# Altium footprint library TerminalBlock_WAGO.PcbLib: 170 footprints (part 7 of 11)
Each footprint in its own frame and in the unit in brackets; x right, y up, seen from the top. Pads: shape width x height; smd on the part's side, far side on the other; paste and mask are expansions set on the pad; w line width, h text height; cw(c..) or ccw(c..) is an arc to the next point about the centre after c.
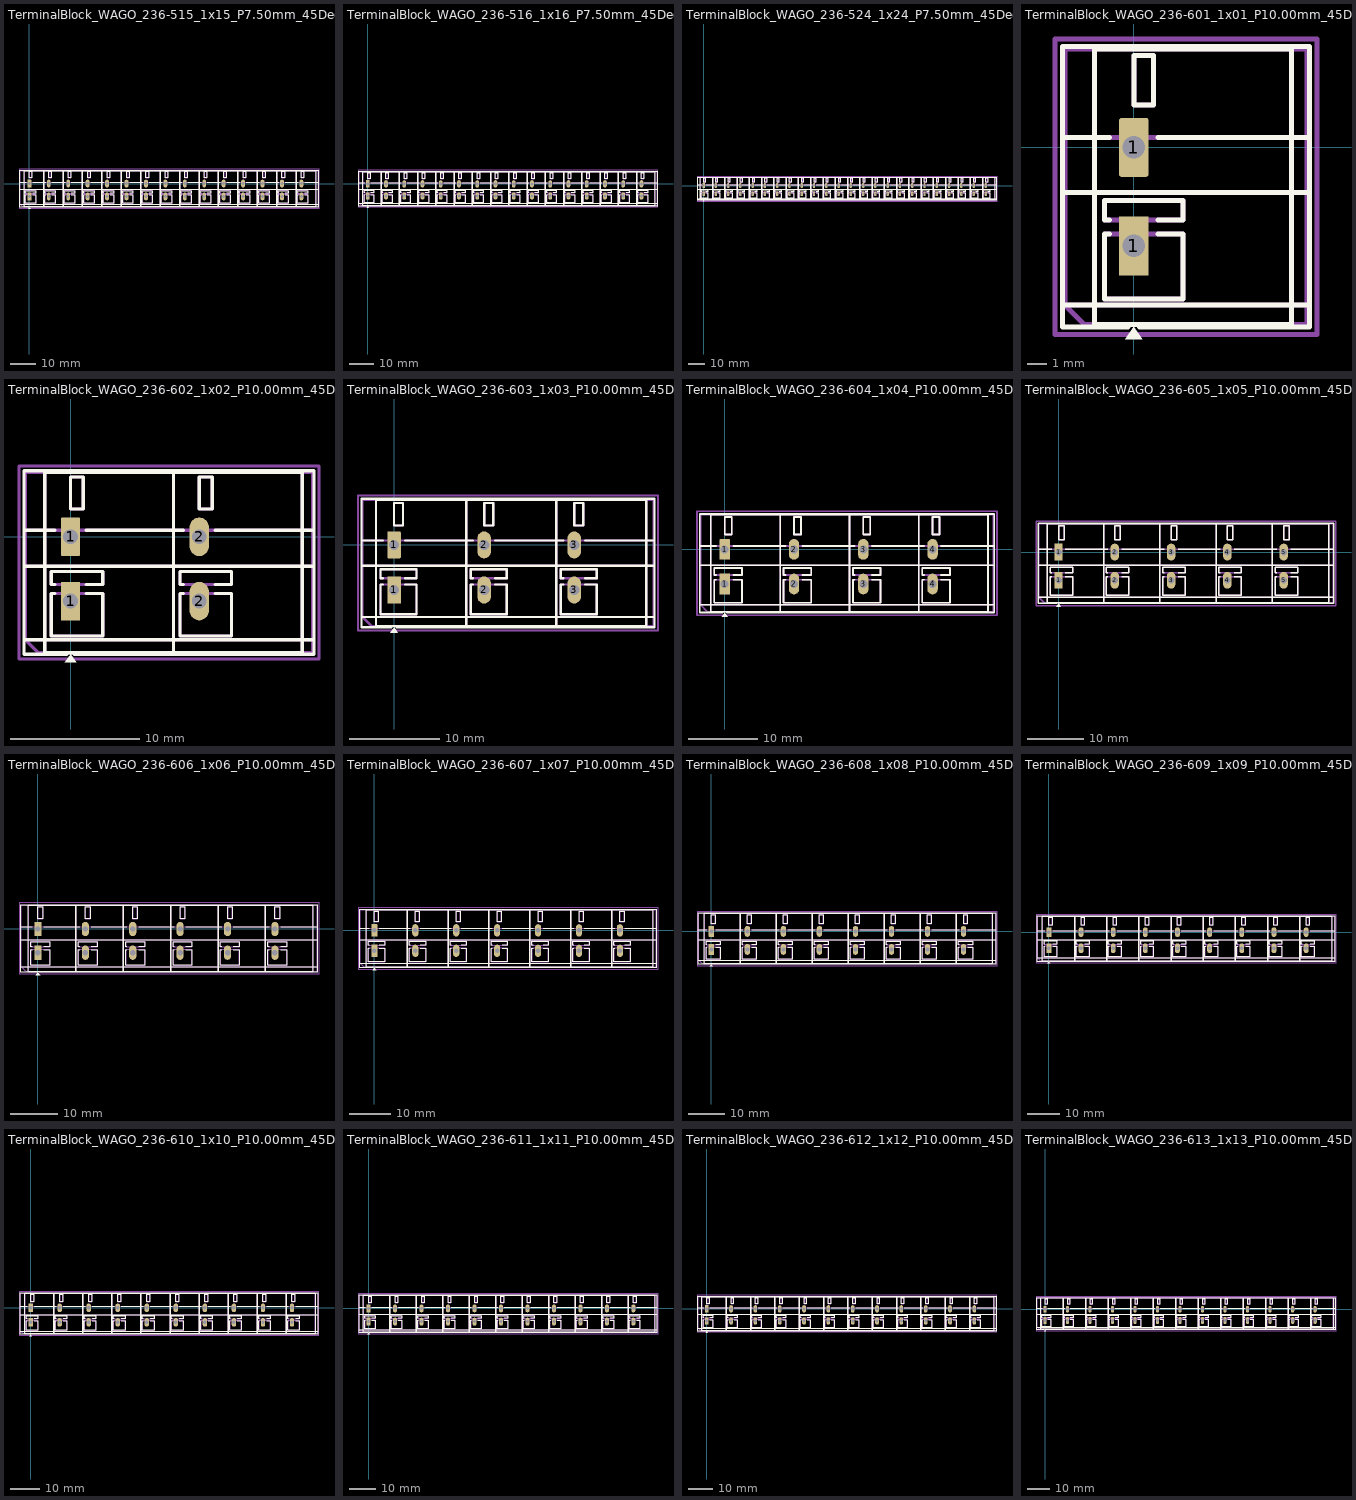
[diagram p6: the footprints below, top view; thin cyan lines are the x and y axes]

## TerminalBlock_WAGO_236-515_1x15_P7.50mm_45Degree [mm]
pads (30):
  rect 1.5x3 hole 1.15: 1(0,-5)
  rrect17% 1.5x3 hole 1.15: 1(0,0)
  rrect100% 1.5x3 hole 1.15: 2(7.5,-5) 2(7.5,0) 3(15,-5) 3(15,0) 4(22.5,-5) 4(22.5,0) 5(30,-5) 5(30,0) 6(37.5,-5) 6(37.5,0) 7(45,-5) 7(45,0) 8(52.5,-5) 8(52.5,0) 9(60,-5) 9(60,0) 10(67.5,-5) 10(67.5,0) 11(75,-5) 11(75,0) 12(82.5,-5) 12(82.5,0) 13(90,-5) 13(90,0) 14(97.5,-5) 14(97.5,0) 15(105,-5) 15(105,0)
F.SilkS:
  drawing of 294 lines, arcs and shapes, not listed
F.Fab:
  drawing of 248 lines, arcs and shapes, not listed
  text "'.Designator'" at 49.853,-1.84 h1
F.CrtYd:
  lines w0.254: -4,-9.5 -4,5.5 111.8,5.5 111.8,-9.5 -4,-9.5

## TerminalBlock_WAGO_236-516_1x16_P7.50mm_45Degree [mm]
pads (32):
  rect 1.5x3 hole 1.15: 1(0,-5)
  rrect17% 1.5x3 hole 1.15: 1(0,0)
  rrect100% 1.5x3 hole 1.15: 2(7.5,-5) 2(7.5,0) 3(15,-5) 3(15,0) 4(22.5,-5) 4(22.5,0) 5(30,-5) 5(30,0) 6(37.5,-5) 6(37.5,0) 7(45,-5) 7(45,0) 8(52.5,-5) 8(52.5,0) 9(60,-5) 9(60,0) 10(67.5,-5) 10(67.5,0) 11(75,-5) 11(75,0) 12(82.5,-5) 12(82.5,0) 13(90,-5) 13(90,0) 14(97.5,-5) 14(97.5,0) 15(105,-5) 15(105,0) 16(112.5,-5) 16(112.5,0)
F.SilkS:
  drawing of 313 lines, arcs and shapes, not listed
F.Fab:
  drawing of 264 lines, arcs and shapes, not listed
  text "'.Designator'" at 53.603,-1.84 h1
F.CrtYd:
  lines w0.254: -4,-9.5 -4,5.5 119.3,5.5 119.3,-9.5 -4,-9.5

## TerminalBlock_WAGO_236-524_1x24_P7.50mm_45Degree [mm]
pads (48):
  rect 1.5x3 hole 1.15: 1(0,-5)
  rrect17% 1.5x3 hole 1.15: 1(0,0)
  rrect100% 1.5x3 hole 1.15: 2(7.5,-5) 2(7.5,0) 3(15,-5) 3(15,0) 4(22.5,-5) 4(22.5,0) 5(30,-5) 5(30,0) 6(37.5,-5) 6(37.5,0) 7(45,-5) 7(45,0) 8(52.5,-5) 8(52.5,0) 9(60,-5) 9(60,0) 10(67.5,-5) 10(67.5,0) 11(75,-5) 11(75,0) 12(82.5,-5) 12(82.5,0) 13(90,-5) 13(90,0) 14(97.5,-5) 14(97.5,0) 15(105,-5) 15(105,0) 16(112.5,-5) 16(112.5,0) 17(120,-5) 17(120,0) 18(127.5,-5) 18(127.5,0) 19(135,-5) 19(135,0) 20(142.5,-5) 20(142.5,0) 21(150,-5) 21(150,0) 22(157.5,-5) 22(157.5,0) 23(165,-5) 23(165,0) 24(172.5,-5) 24(172.5,0)
F.SilkS:
  drawing of 465 lines, arcs and shapes, not listed
F.Fab:
  drawing of 392 lines, arcs and shapes, not listed
  text "'.Designator'" at 83.603,-1.84 h1
F.CrtYd:
  lines w0.254: -4,-9.5 -4,5.5 179.3,5.5 179.3,-9.5 -4,-9.5

## TerminalBlock_WAGO_236-601_1x01_P10.00mm_45Degree [mm]
pads (2):
  rect 1.5x3 hole 1.15: 1(0,-5)
  rrect17% 1.5x3 hole 1.15: 1(0,0)
F.SilkS:
  region: 0.44,-9.73 -0.44,-9.73 0,-9.12
  lines w0.254: -3.62,-8 8.92,-8 ; -3.62,-2.3 8.92,-2.3 ; -3.62,0.5 -1.23,0.5 ; -1.23,-4.4 -1.5,-4.4 -1.5,-7.7 2.5,-7.7 2.5,-4.4 1.23,-4.4 ; -1.23,-3.7 -1.5,-3.7 -1.5,-2.7 2.5,-2.7 2.5,-3.7 1.23,-3.7 ; -0.3,-9.12 -3.62,-9.12 -3.62,5.12 8.92,5.12 8.92,-9.12 0.3,-9.12 ; 1.23,0.5 8.92,0.5 ; -2,-9 -2,5 8,5 8,-9 -2,-9 ; 0,2.15 0,4.65 1,4.65 1,2.15 0,2.15
F.Fab:
  lines w0.254: -3.5,-2.3 8.8,-2.3 ; -3.5,0.5 8.8,0.5 ; 8.8,-8 -3.5,-8 ; -3.5,-8 -3.5,5 8.8,5 8.8,-9 -2.5,-9 -3.5,-8 ; -2,-9 -2,5 8,5 8,-9 -2,-9 ; -1.5,-7.7 -1.5,-4.4 2.5,-4.4 2.5,-7.7 -1.5,-7.7 ; -1.5,-3.7 -1.5,-2.7 2.5,-2.7 2.5,-3.7 -1.5,-3.7 ; 0,2.15 0,4.65 1,4.65 1,2.15 0,2.15
  text "'.Designator'" at -1.397,-1.84 h1
F.CrtYd:
  lines w0.254: -4,-9.5 -4,5.5 9.3,5.5 9.3,-9.5 -4,-9.5

## TerminalBlock_WAGO_236-602_1x02_P10.00mm_45Degree [mm]
pads (4):
  rect 1.5x3 hole 1.15: 1(0,-5)
  rrect17% 1.5x3 hole 1.15: 1(0,0)
  rrect100% 1.5x3 hole 1.15: 2(10,-5) 2(10,0)
F.SilkS:
  region: 0.44,-9.73 -0.44,-9.73 0,-9.12
  lines w0.254: -3.62,-8 18.92,-8 ; -3.62,-2.3 18.92,-2.3 ; -3.62,0.5 -1.23,0.5 ; -1.23,-4.4 -1.5,-4.4 -1.5,-7.7 2.5,-7.7 2.5,-4.4 1.23,-4.4 ; -1.23,-3.7 -1.5,-3.7 -1.5,-2.7 2.5,-2.7 2.5,-3.7 1.23,-3.7 ; -0.3,-9.12 -3.62,-9.12 -3.62,5.12 18.92,5.12 18.92,-9.12 0.3,-9.12 ; 1.23,0.5 8.77,0.5 ; 8.77,-4.4 8.5,-4.4 8.5,-7.7 12.5,-7.7 12.5,-4.4 11.23,-4.4 ; 8.77,-3.7 8.5,-3.7 8.5,-2.7 12.5,-2.7 12.5,-3.7 11.23,-3.7 ; 11.23,0.5 18.92,0.5 ; 8,-9 8,5 ; 8,-9 -2,-9 -2,5 8,5 ; 8,-9 8,5 ; 8,-9 18,-9 18,5 8,5 ; 0,2.15 0,4.65 1,4.65 1,2.15 0,2.15 ; 10,2.15 10,4.65 11,4.65 11,2.15 10,2.15
F.Fab:
  lines w0.254: -3.5,-2.3 18.8,-2.3 ; -3.5,0.5 18.8,0.5 ; 18.8,-8 -3.5,-8 ; -3.5,-8 -3.5,5 18.8,5 18.8,-9 -2.5,-9 -3.5,-8 ; 8,-9 -2,-9 -2,5 8,5 ; 8,-9 8,5 ; 8,-9 8,5 ; 8,-9 18,-9 18,5 8,5 ; -1.5,-7.7 -1.5,-4.4 2.5,-4.4 2.5,-7.7 -1.5,-7.7 ; -1.5,-3.7 -1.5,-2.7 2.5,-2.7 2.5,-3.7 -1.5,-3.7 ; 0,2.15 0,4.65 1,4.65 1,2.15 0,2.15 ; 8.5,-7.7 8.5,-4.4 12.5,-4.4 12.5,-7.7 8.5,-7.7 ; 8.5,-3.7 8.5,-2.7 12.5,-2.7 12.5,-3.7 8.5,-3.7 ; 10,2.15 10,4.65 11,4.65 11,2.15 10,2.15
  text "'.Designator'" at 3.603,-1.84 h1
F.CrtYd:
  lines w0.254: -4,-9.5 -4,5.5 19.3,5.5 19.3,-9.5 -4,-9.5

## TerminalBlock_WAGO_236-603_1x03_P10.00mm_45Degree [mm]
pads (6):
  rect 1.5x3 hole 1.15: 1(0,-5)
  rrect17% 1.5x3 hole 1.15: 1(0,0)
  rrect100% 1.5x3 hole 1.15: 2(10,-5) 2(10,0) 3(20,-5) 3(20,0)
F.SilkS:
  region: 0.44,-9.73 -0.44,-9.73 0,-9.12
  lines w0.254: -3.62,-8 28.92,-8 ; -3.62,-2.3 28.92,-2.3 ; -3.62,0.5 -1.23,0.5 ; -1.23,-4.4 -1.5,-4.4 -1.5,-7.7 2.5,-7.7 2.5,-4.4 1.23,-4.4 ; -1.23,-3.7 -1.5,-3.7 -1.5,-2.7 2.5,-2.7 2.5,-3.7 1.23,-3.7 ; -0.3,-9.12 -3.62,-9.12 -3.62,5.12 28.92,5.12 28.92,-9.12 0.3,-9.12 ; 1.23,0.5 8.77,0.5 ; 8.77,-4.4 8.5,-4.4 8.5,-7.7 12.5,-7.7 12.5,-4.4 11.23,-4.4 ; 8.77,-3.7 8.5,-3.7 8.5,-2.7 12.5,-2.7 12.5,-3.7 11.23,-3.7 ; 11.23,0.5 18.77,0.5 ; 18.77,-4.4 18.5,-4.4 18.5,-7.7 22.5,-7.7 22.5,-4.4 21.23,-4.4 ; 18.77,-3.7 18.5,-3.7 18.5,-2.7 22.5,-2.7 22.5,-3.7 21.23,-3.7 ; 21.23,0.5 28.92,0.5 ; 8,-9 8,5 ; 8,-9 -2,-9 -2,5 8,5 ; 8,-9 8,5 ; 8,-9 18,-9 ; 8,5 18,5 ; 18,-9 18,5 ; 18,-9 18,5 ; 18,-9 28,-9 28,5 18,5 ; 0,2.15 0,4.65 1,4.65 1,2.15 0,2.15 ; 10,2.15 10,4.65 11,4.65 11,2.15 10,2.15 ; 20,2.15 20,4.65 21,4.65 21,2.15 20,2.15
F.Fab:
  lines w0.254: -3.5,-2.3 28.8,-2.3 ; -3.5,0.5 28.8,0.5 ; 28.8,-8 -3.5,-8 ; -3.5,-8 -3.5,5 28.8,5 28.8,-9 -2.5,-9 -3.5,-8 ; 8,-9 -2,-9 -2,5 8,5 ; 8,-9 8,5 ; 8,-9 8,5 ; 8,-9 18,-9 ; 8,5 18,5 ; 18,-9 18,5 ; 18,-9 18,5 ; 18,-9 28,-9 28,5 18,5 ; -1.5,-7.7 -1.5,-4.4 2.5,-4.4 2.5,-7.7 -1.5,-7.7 ; -1.5,-3.7 -1.5,-2.7 2.5,-2.7 2.5,-3.7 -1.5,-3.7 ; 0,2.15 0,4.65 1,4.65 1,2.15 0,2.15 ; 8.5,-7.7 8.5,-4.4 12.5,-4.4 12.5,-7.7 8.5,-7.7 ; 8.5,-3.7 8.5,-2.7 12.5,-2.7 12.5,-3.7 8.5,-3.7 ; 10,2.15 10,4.65 11,4.65 11,2.15 10,2.15 ; 18.5,-7.7 18.5,-4.4 22.5,-4.4 22.5,-7.7 18.5,-7.7 ; 18.5,-3.7 18.5,-2.7 22.5,-2.7 22.5,-3.7 18.5,-3.7 ; 20,2.15 20,4.65 21,4.65 21,2.15 20,2.15
  text "'.Designator'" at 8.603,-1.84 h1
F.CrtYd:
  lines w0.254: -4,-9.5 -4,5.5 29.3,5.5 29.3,-9.5 -4,-9.5

## TerminalBlock_WAGO_236-604_1x04_P10.00mm_45Degree [mm]
pads (8):
  rect 1.5x3 hole 1.15: 1(0,-5)
  rrect17% 1.5x3 hole 1.15: 1(0,0)
  rrect100% 1.5x3 hole 1.15: 2(10,-5) 2(10,0) 3(20,-5) 3(20,0) 4(30,-5) 4(30,0)
F.SilkS:
  region: 0.44,-9.73 -0.44,-9.73 0,-9.12
  lines w0.254: -3.62,-8 38.92,-8 ; -3.62,-2.3 38.92,-2.3 ; -3.62,0.5 -1.23,0.5 ; -1.23,-4.4 -1.5,-4.4 -1.5,-7.7 2.5,-7.7 2.5,-4.4 1.23,-4.4 ; -1.23,-3.7 -1.5,-3.7 -1.5,-2.7 2.5,-2.7 2.5,-3.7 1.23,-3.7 ; -0.3,-9.12 -3.62,-9.12 -3.62,5.12 38.92,5.12 38.92,-9.12 0.3,-9.12 ; 1.23,0.5 8.77,0.5 ; 8.77,-4.4 8.5,-4.4 8.5,-7.7 12.5,-7.7 12.5,-4.4 11.23,-4.4 ; 8.77,-3.7 8.5,-3.7 8.5,-2.7 12.5,-2.7 12.5,-3.7 11.23,-3.7 ; 11.23,0.5 18.77,0.5 ; 18.77,-4.4 18.5,-4.4 18.5,-7.7 22.5,-7.7 22.5,-4.4 21.23,-4.4 ; 18.77,-3.7 18.5,-3.7 18.5,-2.7 22.5,-2.7 22.5,-3.7 21.23,-3.7 ; 21.23,0.5 28.77,0.5 ; 28.77,-4.4 28.5,-4.4 28.5,-7.7 32.5,-7.7 32.5,-4.4 31.23,-4.4 ; 28.77,-3.7 28.5,-3.7 28.5,-2.7 32.5,-2.7 32.5,-3.7 31.23,-3.7 ; 31.23,0.5 38.92,0.5 ; 8,-9 8,5 ; 8,-9 -2,-9 -2,5 8,5 ; 8,-9 8,5 ; 8,-9 18,-9 ; 8,5 18,5 ; 18,-9 18,5 ; 18,-9 18,5 ; 18,-9 28,-9 ; 18,5 28,5 ; 28,-9 28,5 ; 28,-9 28,5 ; 28,-9 38,-9 38,5 28,5 ; 0,2.15 0,4.65 1,4.65 1,2.15 0,2.15 ; 10,2.15 10,4.65 11,4.65 11,2.15 10,2.15 ; 20,2.15 20,4.65 21,4.65 21,2.15 20,2.15 ; 30,2.15 30,4.65 31,4.65 31,2.15 30,2.15
F.Fab:
  lines w0.254: -3.5,-2.3 38.8,-2.3 ; -3.5,0.5 38.8,0.5 ; 38.8,-8 -3.5,-8 ; -3.5,-8 -3.5,5 38.8,5 38.8,-9 -2.5,-9 -3.5,-8 ; 8,-9 -2,-9 -2,5 8,5 ; 8,-9 8,5 ; 8,-9 8,5 ; 8,-9 18,-9 ; 8,5 18,5 ; 18,-9 18,5 ; 18,-9 18,5 ; 18,-9 28,-9 ; 18,5 28,5 ; 28,-9 28,5 ; 28,-9 28,5 ; 28,-9 38,-9 38,5 28,5 ; -1.5,-7.7 -1.5,-4.4 2.5,-4.4 2.5,-7.7 -1.5,-7.7 ; -1.5,-3.7 -1.5,-2.7 2.5,-2.7 2.5,-3.7 -1.5,-3.7 ; 0,2.15 0,4.65 1,4.65 1,2.15 0,2.15 ; 8.5,-7.7 8.5,-4.4 12.5,-4.4 12.5,-7.7 8.5,-7.7 ; 8.5,-3.7 8.5,-2.7 12.5,-2.7 12.5,-3.7 8.5,-3.7 ; 10,2.15 10,4.65 11,4.65 11,2.15 10,2.15 ; 18.5,-7.7 18.5,-4.4 22.5,-4.4 22.5,-7.7 18.5,-7.7 ; 18.5,-3.7 18.5,-2.7 22.5,-2.7 22.5,-3.7 18.5,-3.7 ; 20,2.15 20,4.65 21,4.65 21,2.15 20,2.15 ; 28.5,-7.7 28.5,-4.4 32.5,-4.4 32.5,-7.7 28.5,-7.7 ; 28.5,-3.7 28.5,-2.7 32.5,-2.7 32.5,-3.7 28.5,-3.7 ; 30,2.15 30,4.65 31,4.65 31,2.15 30,2.15
  text "'.Designator'" at 13.603,-1.84 h1
F.CrtYd:
  lines w0.254: -4,-9.5 -4,5.5 39.3,5.5 39.3,-9.5 -4,-9.5

## TerminalBlock_WAGO_236-605_1x05_P10.00mm_45Degree [mm]
pads (10):
  rect 1.5x3 hole 1.15: 1(0,-5)
  rrect17% 1.5x3 hole 1.15: 1(0,0)
  rrect100% 1.5x3 hole 1.15: 2(10,-5) 2(10,0) 3(20,-5) 3(20,0) 4(30,-5) 4(30,0) 5(40,-5) 5(40,0)
F.SilkS:
  region: 0.44,-9.73 -0.44,-9.73 0,-9.12
  lines w0.254: -3.62,-8 48.92,-8 ; -3.62,-2.3 48.92,-2.3 ; -3.62,0.5 -1.23,0.5 ; -1.23,-4.4 -1.5,-4.4 -1.5,-7.7 2.5,-7.7 2.5,-4.4 1.23,-4.4 ; -1.23,-3.7 -1.5,-3.7 -1.5,-2.7 2.5,-2.7 2.5,-3.7 1.23,-3.7 ; -0.3,-9.12 -3.62,-9.12 -3.62,5.12 48.92,5.12 48.92,-9.12 0.3,-9.12 ; 1.23,0.5 8.77,0.5 ; 8.77,-4.4 8.5,-4.4 8.5,-7.7 12.5,-7.7 12.5,-4.4 11.23,-4.4 ; 8.77,-3.7 8.5,-3.7 8.5,-2.7 12.5,-2.7 12.5,-3.7 11.23,-3.7 ; 11.23,0.5 18.77,0.5 ; 18.77,-4.4 18.5,-4.4 18.5,-7.7 22.5,-7.7 22.5,-4.4 21.23,-4.4 ; 18.77,-3.7 18.5,-3.7 18.5,-2.7 22.5,-2.7 22.5,-3.7 21.23,-3.7 ; 21.23,0.5 28.77,0.5 ; 28.77,-4.4 28.5,-4.4 28.5,-7.7 32.5,-7.7 32.5,-4.4 31.23,-4.4 ; 28.77,-3.7 28.5,-3.7 28.5,-2.7 32.5,-2.7 32.5,-3.7 31.23,-3.7 ; 31.23,0.5 38.77,0.5 ; 38.77,-4.4 38.5,-4.4 38.5,-7.7 42.5,-7.7 42.5,-4.4 41.23,-4.4 ; 38.77,-3.7 38.5,-3.7 38.5,-2.7 42.5,-2.7 42.5,-3.7 41.23,-3.7 ; 41.23,0.5 48.92,0.5 ; 8,-9 8,5 ; 8,-9 -2,-9 -2,5 8,5 ; 8,-9 8,5 ; 8,-9 18,-9 ; 8,5 18,5 ; 18,-9 18,5 ; 18,-9 18,5 ; 18,-9 28,-9 ; 18,5 28,5 ; 28,-9 28,5 ; 28,-9 28,5 ; 28,-9 38,-9 ; 28,5 38,5 ; 38,-9 38,5 ; 38,-9 38,5 ; 38,-9 48,-9 48,5 38,5 ; 0,2.15 0,4.65 1,4.65 1,2.15 0,2.15 ; 10,2.15 10,4.65 11,4.65 11,2.15 10,2.15 ; 20,2.15 20,4.65 21,4.65 21,2.15 20,2.15 ; 30,2.15 30,4.65 31,4.65 31,2.15 30,2.15 ; 40,2.15 40,4.65 41,4.65 41,2.15 40,2.15
F.Fab:
  lines w0.254: -3.5,-2.3 48.8,-2.3 ; -3.5,0.5 48.8,0.5 ; 48.8,-8 -3.5,-8 ; -3.5,-8 -3.5,5 48.8,5 48.8,-9 -2.5,-9 -3.5,-8 ; 8,-9 -2,-9 -2,5 8,5 ; 8,-9 8,5 ; 8,-9 8,5 ; 8,-9 18,-9 ; 8,5 18,5 ; 18,-9 18,5 ; 18,-9 18,5 ; 18,-9 28,-9 ; 18,5 28,5 ; 28,-9 28,5 ; 28,-9 28,5 ; 28,-9 38,-9 ; 28,5 38,5 ; 38,-9 38,5 ; 38,-9 38,5 ; 38,-9 48,-9 48,5 38,5 ; -1.5,-7.7 -1.5,-4.4 2.5,-4.4 2.5,-7.7 -1.5,-7.7 ; -1.5,-3.7 -1.5,-2.7 2.5,-2.7 2.5,-3.7 -1.5,-3.7 ; 0,2.15 0,4.65 1,4.65 1,2.15 0,2.15 ; 8.5,-7.7 8.5,-4.4 12.5,-4.4 12.5,-7.7 8.5,-7.7 ; 8.5,-3.7 8.5,-2.7 12.5,-2.7 12.5,-3.7 8.5,-3.7 ; 10,2.15 10,4.65 11,4.65 11,2.15 10,2.15 ; 18.5,-7.7 18.5,-4.4 22.5,-4.4 22.5,-7.7 18.5,-7.7 ; 18.5,-3.7 18.5,-2.7 22.5,-2.7 22.5,-3.7 18.5,-3.7 ; 20,2.15 20,4.65 21,4.65 21,2.15 20,2.15 ; 28.5,-7.7 28.5,-4.4 32.5,-4.4 32.5,-7.7 28.5,-7.7 ; 28.5,-3.7 28.5,-2.7 32.5,-2.7 32.5,-3.7 28.5,-3.7 ; 30,2.15 30,4.65 31,4.65 31,2.15 30,2.15 ; 38.5,-7.7 38.5,-4.4 42.5,-4.4 42.5,-7.7 38.5,-7.7 ; 38.5,-3.7 38.5,-2.7 42.5,-2.7 42.5,-3.7 38.5,-3.7 ; 40,2.15 40,4.65 41,4.65 41,2.15 40,2.15
  text "'.Designator'" at 18.603,-1.84 h1
F.CrtYd:
  lines w0.254: -4,-9.5 -4,5.5 49.3,5.5 49.3,-9.5 -4,-9.5

## TerminalBlock_WAGO_236-606_1x06_P10.00mm_45Degree [mm]
pads (12):
  rect 1.5x3 hole 1.15: 1(0,-5)
  rrect17% 1.5x3 hole 1.15: 1(0,0)
  rrect100% 1.5x3 hole 1.15: 2(10,-5) 2(10,0) 3(20,-5) 3(20,0) 4(30,-5) 4(30,0) 5(40,-5) 5(40,0) 6(50,-5) 6(50,0)
F.SilkS:
  region: 0.44,-9.73 -0.44,-9.73 0,-9.12
  lines w0.254: -3.62,-8 58.92,-8 ; -3.62,-2.3 58.92,-2.3 ; -3.62,0.5 -1.23,0.5 ; -1.23,-4.4 -1.5,-4.4 -1.5,-7.7 2.5,-7.7 2.5,-4.4 1.23,-4.4 ; -1.23,-3.7 -1.5,-3.7 -1.5,-2.7 2.5,-2.7 2.5,-3.7 1.23,-3.7 ; -0.3,-9.12 -3.62,-9.12 -3.62,5.12 58.92,5.12 58.92,-9.12 0.3,-9.12 ; 1.23,0.5 8.77,0.5 ; 8.77,-4.4 8.5,-4.4 8.5,-7.7 12.5,-7.7 12.5,-4.4 11.23,-4.4 ; 8.77,-3.7 8.5,-3.7 8.5,-2.7 12.5,-2.7 12.5,-3.7 11.23,-3.7 ; 11.23,0.5 18.77,0.5 ; 18.77,-4.4 18.5,-4.4 18.5,-7.7 22.5,-7.7 22.5,-4.4 21.23,-4.4 ; 18.77,-3.7 18.5,-3.7 18.5,-2.7 22.5,-2.7 22.5,-3.7 21.23,-3.7 ; 21.23,0.5 28.77,0.5 ; 28.77,-4.4 28.5,-4.4 28.5,-7.7 32.5,-7.7 32.5,-4.4 31.23,-4.4 ; 28.77,-3.7 28.5,-3.7 28.5,-2.7 32.5,-2.7 32.5,-3.7 31.23,-3.7 ; 31.23,0.5 38.77,0.5 ; 38.77,-4.4 38.5,-4.4 38.5,-7.7 42.5,-7.7 42.5,-4.4 41.23,-4.4 ; 38.77,-3.7 38.5,-3.7 38.5,-2.7 42.5,-2.7 42.5,-3.7 41.23,-3.7 ; 41.23,0.5 48.77,0.5 ; 48.77,-4.4 48.5,-4.4 48.5,-7.7 52.5,-7.7 52.5,-4.4 51.23,-4.4 ; 48.77,-3.7 48.5,-3.7 48.5,-2.7 52.5,-2.7 52.5,-3.7 51.23,-3.7 ; 51.23,0.5 58.92,0.5 ; 8,-9 8,5 ; 8,-9 -2,-9 -2,5 8,5 ; 8,-9 8,5 ; 8,-9 18,-9 ; 8,5 18,5 ; 18,-9 18,5 ; 18,-9 18,5 ; 18,-9 28,-9 ; 18,5 28,5 ; 28,-9 28,5 ; 28,-9 28,5 ; 28,-9 38,-9 ; 28,5 38,5 ; 38,-9 38,5 ; 38,-9 38,5 ; 38,-9 48,-9 ; 38,5 48,5 ; 48,-9 48,5 ; 48,-9 48,5 ; 48,-9 58,-9 58,5 48,5 ; 0,2.15 0,4.65 1,4.65 1,2.15 0,2.15 ; 10,2.15 10,4.65 11,4.65 11,2.15 10,2.15 ; 20,2.15 20,4.65 21,4.65 21,2.15 20,2.15 ; 30,2.15 30,4.65 31,4.65 31,2.15 30,2.15 ; 40,2.15 40,4.65 41,4.65 41,2.15 40,2.15 ; 50,2.15 50,4.65 51,4.65 51,2.15 50,2.15
F.Fab:
  lines w0.254: -3.5,-2.3 58.8,-2.3 ; -3.5,0.5 58.8,0.5 ; 58.8,-8 -3.5,-8 ; -3.5,-8 -3.5,5 58.8,5 58.8,-9 -2.5,-9 -3.5,-8 ; 8,-9 -2,-9 -2,5 8,5 ; 8,-9 8,5 ; 8,-9 8,5 ; 8,-9 18,-9 ; 8,5 18,5 ; 18,-9 18,5 ; 18,-9 18,5 ; 18,-9 28,-9 ; 18,5 28,5 ; 28,-9 28,5 ; 28,-9 28,5 ; 28,-9 38,-9 ; 28,5 38,5 ; 38,-9 38,5 ; 38,-9 38,5 ; 38,-9 48,-9 ; 38,5 48,5 ; 48,-9 48,5 ; 48,-9 48,5 ; 48,-9 58,-9 58,5 48,5 ; -1.5,-7.7 -1.5,-4.4 2.5,-4.4 2.5,-7.7 -1.5,-7.7 ; -1.5,-3.7 -1.5,-2.7 2.5,-2.7 2.5,-3.7 -1.5,-3.7 ; 0,2.15 0,4.65 1,4.65 1,2.15 0,2.15 ; 8.5,-7.7 8.5,-4.4 12.5,-4.4 12.5,-7.7 8.5,-7.7 ; 8.5,-3.7 8.5,-2.7 12.5,-2.7 12.5,-3.7 8.5,-3.7 ; 10,2.15 10,4.65 11,4.65 11,2.15 10,2.15 ; 18.5,-7.7 18.5,-4.4 22.5,-4.4 22.5,-7.7 18.5,-7.7 ; 18.5,-3.7 18.5,-2.7 22.5,-2.7 22.5,-3.7 18.5,-3.7 ; 20,2.15 20,4.65 21,4.65 21,2.15 20,2.15 ; 28.5,-7.7 28.5,-4.4 32.5,-4.4 32.5,-7.7 28.5,-7.7 ; 28.5,-3.7 28.5,-2.7 32.5,-2.7 32.5,-3.7 28.5,-3.7 ; 30,2.15 30,4.65 31,4.65 31,2.15 30,2.15 ; 38.5,-7.7 38.5,-4.4 42.5,-4.4 42.5,-7.7 38.5,-7.7 ; 38.5,-3.7 38.5,-2.7 42.5,-2.7 42.5,-3.7 38.5,-3.7 ; 40,2.15 40,4.65 41,4.65 41,2.15 40,2.15 ; 48.5,-7.7 48.5,-4.4 52.5,-4.4 52.5,-7.7 48.5,-7.7 ; 48.5,-3.7 48.5,-2.7 52.5,-2.7 52.5,-3.7 48.5,-3.7 ; 50,2.15 50,4.65 51,4.65 51,2.15 50,2.15
  text "'.Designator'" at 23.603,-1.84 h1
F.CrtYd:
  lines w0.254: -4,-9.5 -4,5.5 59.3,5.5 59.3,-9.5 -4,-9.5

## TerminalBlock_WAGO_236-607_1x07_P10.00mm_45Degree [mm]
pads (14):
  rect 1.5x3 hole 1.15: 1(0,-5)
  rrect17% 1.5x3 hole 1.15: 1(0,0)
  rrect100% 1.5x3 hole 1.15: 2(10,-5) 2(10,0) 3(20,-5) 3(20,0) 4(30,-5) 4(30,0) 5(40,-5) 5(40,0) 6(50,-5) 6(50,0) 7(60,-5) 7(60,0)
F.SilkS:
  region: 0.44,-9.73 -0.44,-9.73 0,-9.12
  lines w0.254: -3.62,-8 68.92,-8 ; -3.62,-2.3 68.92,-2.3 ; -3.62,0.5 -1.23,0.5 ; -1.23,-4.4 -1.5,-4.4 -1.5,-7.7 2.5,-7.7 2.5,-4.4 1.23,-4.4 ; -1.23,-3.7 -1.5,-3.7 -1.5,-2.7 2.5,-2.7 2.5,-3.7 1.23,-3.7 ; -0.3,-9.12 -3.62,-9.12 -3.62,5.12 68.92,5.12 68.92,-9.12 0.3,-9.12 ; 1.23,0.5 8.77,0.5 ; 8.77,-4.4 8.5,-4.4 8.5,-7.7 12.5,-7.7 12.5,-4.4 11.23,-4.4 ; 8.77,-3.7 8.5,-3.7 8.5,-2.7 12.5,-2.7 12.5,-3.7 11.23,-3.7 ; 11.23,0.5 18.77,0.5 ; 18.77,-4.4 18.5,-4.4 18.5,-7.7 22.5,-7.7 22.5,-4.4 21.23,-4.4 ; 18.77,-3.7 18.5,-3.7 18.5,-2.7 22.5,-2.7 22.5,-3.7 21.23,-3.7 ; 21.23,0.5 28.77,0.5 ; 28.77,-4.4 28.5,-4.4 28.5,-7.7 32.5,-7.7 32.5,-4.4 31.23,-4.4 ; 28.77,-3.7 28.5,-3.7 28.5,-2.7 32.5,-2.7 32.5,-3.7 31.23,-3.7 ; 31.23,0.5 38.77,0.5 ; 38.77,-4.4 38.5,-4.4 38.5,-7.7 42.5,-7.7 42.5,-4.4 41.23,-4.4 ; 38.77,-3.7 38.5,-3.7 38.5,-2.7 42.5,-2.7 42.5,-3.7 41.23,-3.7 ; 41.23,0.5 48.77,0.5 ; 48.77,-4.4 48.5,-4.4 48.5,-7.7 52.5,-7.7 52.5,-4.4 51.23,-4.4 ; 48.77,-3.7 48.5,-3.7 48.5,-2.7 52.5,-2.7 52.5,-3.7 51.23,-3.7 ; 51.23,0.5 58.77,0.5 ; 58.77,-4.4 58.5,-4.4 58.5,-7.7 62.5,-7.7 62.5,-4.4 61.23,-4.4 ; 58.77,-3.7 58.5,-3.7 58.5,-2.7 62.5,-2.7 62.5,-3.7 61.23,-3.7 ; 61.23,0.5 68.92,0.5 ; 8,-9 8,5 ; 8,-9 -2,-9 -2,5 8,5 ; 8,-9 8,5 ; 8,-9 18,-9 ; 8,5 18,5 ; 18,-9 18,5 ; 18,-9 18,5 ; 18,-9 28,-9 ; 18,5 28,5 ; 28,-9 28,5 ; 28,-9 28,5 ; 28,-9 38,-9 ; 28,5 38,5 ; 38,-9 38,5 ; 38,-9 38,5 ; 38,-9 48,-9 ; 38,5 48,5 ; 48,-9 48,5 ; 48,-9 48,5 ; 48,-9 58,-9 ; 48,5 58,5 ; 58,-9 58,5 ; 58,-9 58,5 ; 58,-9 68,-9 68,5 58,5 ; 0,2.15 0,4.65 1,4.65 1,2.15 0,2.15 ; 10,2.15 10,4.65 11,4.65 11,2.15 10,2.15 ; 20,2.15 20,4.65 21,4.65 21,2.15 20,2.15 ; 30,2.15 30,4.65 31,4.65 31,2.15 30,2.15 ; 40,2.15 40,4.65 41,4.65 41,2.15 40,2.15 ; 50,2.15 50,4.65 51,4.65 51,2.15 50,2.15 ; 60,2.15 60,4.65 61,4.65 61,2.15 60,2.15
F.Fab:
  lines w0.254: -3.5,-2.3 68.8,-2.3 ; -3.5,0.5 68.8,0.5 ; 68.8,-8 -3.5,-8 ; -3.5,-8 -3.5,5 68.8,5 68.8,-9 -2.5,-9 -3.5,-8 ; 8,-9 -2,-9 -2,5 8,5 ; 8,-9 8,5 ; 8,-9 8,5 ; 8,-9 18,-9 ; 8,5 18,5 ; 18,-9 18,5 ; 18,-9 18,5 ; 18,-9 28,-9 ; 18,5 28,5 ; 28,-9 28,5 ; 28,-9 28,5 ; 28,-9 38,-9 ; 28,5 38,5 ; 38,-9 38,5 ; 38,-9 38,5 ; 38,-9 48,-9 ; 38,5 48,5 ; 48,-9 48,5 ; 48,-9 48,5 ; 48,-9 58,-9 ; 48,5 58,5 ; 58,-9 58,5 ; 58,-9 58,5 ; 58,-9 68,-9 68,5 58,5 ; -1.5,-7.7 -1.5,-4.4 2.5,-4.4 2.5,-7.7 -1.5,-7.7 ; -1.5,-3.7 -1.5,-2.7 2.5,-2.7 2.5,-3.7 -1.5,-3.7 ; 0,2.15 0,4.65 1,4.65 1,2.15 0,2.15 ; 8.5,-7.7 8.5,-4.4 12.5,-4.4 12.5,-7.7 8.5,-7.7 ; 8.5,-3.7 8.5,-2.7 12.5,-2.7 12.5,-3.7 8.5,-3.7 ; 10,2.15 10,4.65 11,4.65 11,2.15 10,2.15 ; 18.5,-7.7 18.5,-4.4 22.5,-4.4 22.5,-7.7 18.5,-7.7 ; 18.5,-3.7 18.5,-2.7 22.5,-2.7 22.5,-3.7 18.5,-3.7 ; 20,2.15 20,4.65 21,4.65 21,2.15 20,2.15 ; 28.5,-7.7 28.5,-4.4 32.5,-4.4 32.5,-7.7 28.5,-7.7 ; 28.5,-3.7 28.5,-2.7 32.5,-2.7 32.5,-3.7 28.5,-3.7 ; 30,2.15 30,4.65 31,4.65 31,2.15 30,2.15 ; 38.5,-7.7 38.5,-4.4 42.5,-4.4 42.5,-7.7 38.5,-7.7 ; 38.5,-3.7 38.5,-2.7 42.5,-2.7 42.5,-3.7 38.5,-3.7 ; 40,2.15 40,4.65 41,4.65 41,2.15 40,2.15 ; 48.5,-7.7 48.5,-4.4 52.5,-4.4 52.5,-7.7 48.5,-7.7 ; 48.5,-3.7 48.5,-2.7 52.5,-2.7 52.5,-3.7 48.5,-3.7 ; 50,2.15 50,4.65 51,4.65 51,2.15 50,2.15 ; 58.5,-7.7 58.5,-4.4 62.5,-4.4 62.5,-7.7 58.5,-7.7 ; 58.5,-3.7 58.5,-2.7 62.5,-2.7 62.5,-3.7 58.5,-3.7 ; 60,2.15 60,4.65 61,4.65 61,2.15 60,2.15
  text "'.Designator'" at 28.603,-1.84 h1
F.CrtYd:
  lines w0.254: -4,-9.5 -4,5.5 69.3,5.5 69.3,-9.5 -4,-9.5

## TerminalBlock_WAGO_236-608_1x08_P10.00mm_45Degree [mm]
pads (16):
  rect 1.5x3 hole 1.15: 1(0,-5)
  rrect17% 1.5x3 hole 1.15: 1(0,0)
  rrect100% 1.5x3 hole 1.15: 2(10,-5) 2(10,0) 3(20,-5) 3(20,0) 4(30,-5) 4(30,0) 5(40,-5) 5(40,0) 6(50,-5) 6(50,0) 7(60,-5) 7(60,0) 8(70,-5) 8(70,0)
F.SilkS:
  drawing of 161 lines, arcs and shapes, not listed
F.Fab:
  lines w0.254: -3.5,-2.3 78.8,-2.3 ; -3.5,0.5 78.8,0.5 ; 78.8,-8 -3.5,-8 ; -3.5,-8 -3.5,5 78.8,5 78.8,-9 -2.5,-9 -3.5,-8 ; 8,-9 -2,-9 -2,5 8,5 ; 8,-9 8,5 ; 8,-9 8,5 ; 8,-9 18,-9 ; 8,5 18,5 ; 18,-9 18,5 ; 18,-9 18,5 ; 18,-9 28,-9 ; 18,5 28,5 ; 28,-9 28,5 ; 28,-9 28,5 ; 28,-9 38,-9 ; 28,5 38,5 ; 38,-9 38,5 ; 38,-9 38,5 ; 38,-9 48,-9 ; 38,5 48,5 ; 48,-9 48,5 ; 48,-9 48,5 ; 48,-9 58,-9 ; 48,5 58,5 ; 58,-9 58,5 ; 58,-9 58,5 ; 58,-9 68,-9 ; 58,5 68,5 ; 68,-9 68,5 ; 68,-9 68,5 ; 68,-9 78,-9 78,5 68,5 ; -1.5,-7.7 -1.5,-4.4 2.5,-4.4 2.5,-7.7 -1.5,-7.7 ; -1.5,-3.7 -1.5,-2.7 2.5,-2.7 2.5,-3.7 -1.5,-3.7 ; 0,2.15 0,4.65 1,4.65 1,2.15 0,2.15 ; 8.5,-7.7 8.5,-4.4 12.5,-4.4 12.5,-7.7 8.5,-7.7 ; 8.5,-3.7 8.5,-2.7 12.5,-2.7 12.5,-3.7 8.5,-3.7 ; 10,2.15 10,4.65 11,4.65 11,2.15 10,2.15 ; 18.5,-7.7 18.5,-4.4 22.5,-4.4 22.5,-7.7 18.5,-7.7 ; 18.5,-3.7 18.5,-2.7 22.5,-2.7 22.5,-3.7 18.5,-3.7 ; 20,2.15 20,4.65 21,4.65 21,2.15 20,2.15 ; 28.5,-7.7 28.5,-4.4 32.5,-4.4 32.5,-7.7 28.5,-7.7 ; 28.5,-3.7 28.5,-2.7 32.5,-2.7 32.5,-3.7 28.5,-3.7 ; 30,2.15 30,4.65 31,4.65 31,2.15 30,2.15 ; 38.5,-7.7 38.5,-4.4 42.5,-4.4 42.5,-7.7 38.5,-7.7 ; 38.5,-3.7 38.5,-2.7 42.5,-2.7 42.5,-3.7 38.5,-3.7 ; 40,2.15 40,4.65 41,4.65 41,2.15 40,2.15 ; 48.5,-7.7 48.5,-4.4 52.5,-4.4 52.5,-7.7 48.5,-7.7 ; 48.5,-3.7 48.5,-2.7 52.5,-2.7 52.5,-3.7 48.5,-3.7 ; 50,2.15 50,4.65 51,4.65 51,2.15 50,2.15 ; 58.5,-7.7 58.5,-4.4 62.5,-4.4 62.5,-7.7 58.5,-7.7 ; 58.5,-3.7 58.5,-2.7 62.5,-2.7 62.5,-3.7 58.5,-3.7 ; 60,2.15 60,4.65 61,4.65 61,2.15 60,2.15 ; 68.5,-7.7 68.5,-4.4 72.5,-4.4 72.5,-7.7 68.5,-7.7 ; 68.5,-3.7 68.5,-2.7 72.5,-2.7 72.5,-3.7 68.5,-3.7 ; 70,2.15 70,4.65 71,4.65 71,2.15 70,2.15
  text "'.Designator'" at 33.603,-1.84 h1
F.CrtYd:
  lines w0.254: -4,-9.5 -4,5.5 79.3,5.5 79.3,-9.5 -4,-9.5

## TerminalBlock_WAGO_236-609_1x09_P10.00mm_45Degree [mm]
pads (18):
  rect 1.5x3 hole 1.15: 1(0,-5)
  rrect17% 1.5x3 hole 1.15: 1(0,0)
  rrect100% 1.5x3 hole 1.15: 2(10,-5) 2(10,0) 3(20,-5) 3(20,0) 4(30,-5) 4(30,0) 5(40,-5) 5(40,0) 6(50,-5) 6(50,0) 7(60,-5) 7(60,0) 8(70,-5) 8(70,0) 9(80,-5) 9(80,0)
F.SilkS:
  drawing of 180 lines, arcs and shapes, not listed
F.Fab:
  drawing of 152 lines, arcs and shapes, not listed
  text "'.Designator'" at 38.603,-1.84 h1
F.CrtYd:
  lines w0.254: -4,-9.5 -4,5.5 89.3,5.5 89.3,-9.5 -4,-9.5

## TerminalBlock_WAGO_236-610_1x10_P10.00mm_45Degree [mm]
pads (20):
  rect 1.5x3 hole 1.15: 1(0,-5)
  rrect17% 1.5x3 hole 1.15: 1(0,0)
  rrect100% 1.5x3 hole 1.15: 2(10,-5) 2(10,0) 3(20,-5) 3(20,0) 4(30,-5) 4(30,0) 5(40,-5) 5(40,0) 6(50,-5) 6(50,0) 7(60,-5) 7(60,0) 8(70,-5) 8(70,0) 9(80,-5) 9(80,0) 10(90,-5) 10(90,0)
F.SilkS:
  drawing of 199 lines, arcs and shapes, not listed
F.Fab:
  drawing of 168 lines, arcs and shapes, not listed
  text "'.Designator'" at 43.603,-1.84 h1
F.CrtYd:
  lines w0.254: -4,-9.5 -4,5.5 99.3,5.5 99.3,-9.5 -4,-9.5

## TerminalBlock_WAGO_236-611_1x11_P10.00mm_45Degree [mm]
pads (22):
  rect 1.5x3 hole 1.15: 1(0,-5)
  rrect17% 1.5x3 hole 1.15: 1(0,0)
  rrect100% 1.5x3 hole 1.15: 2(10,-5) 2(10,0) 3(20,-5) 3(20,0) 4(30,-5) 4(30,0) 5(40,-5) 5(40,0) 6(50,-5) 6(50,0) 7(60,-5) 7(60,0) 8(70,-5) 8(70,0) 9(80,-5) 9(80,0) 10(90,-5) 10(90,0) 11(100,-5) 11(100,0)
F.SilkS:
  drawing of 218 lines, arcs and shapes, not listed
F.Fab:
  drawing of 184 lines, arcs and shapes, not listed
  text "'.Designator'" at 48.603,-1.84 h1
F.CrtYd:
  lines w0.254: -4,-9.5 -4,5.5 109.3,5.5 109.3,-9.5 -4,-9.5

## TerminalBlock_WAGO_236-612_1x12_P10.00mm_45Degree [mm]
pads (24):
  rect 1.5x3 hole 1.15: 1(0,-5)
  rrect17% 1.5x3 hole 1.15: 1(0,0)
  rrect100% 1.5x3 hole 1.15: 2(10,-5) 2(10,0) 3(20,-5) 3(20,0) 4(30,-5) 4(30,0) 5(40,-5) 5(40,0) 6(50,-5) 6(50,0) 7(60,-5) 7(60,0) 8(70,-5) 8(70,0) 9(80,-5) 9(80,0) 10(90,-5) 10(90,0) 11(100,-5) 11(100,0) 12(110,-5) 12(110,0)
F.SilkS:
  drawing of 237 lines, arcs and shapes, not listed
F.Fab:
  drawing of 200 lines, arcs and shapes, not listed
  text "'.Designator'" at 53.603,-1.84 h1
F.CrtYd:
  lines w0.254: -4,-9.5 -4,5.5 119.3,5.5 119.3,-9.5 -4,-9.5

## TerminalBlock_WAGO_236-613_1x13_P10.00mm_45Degree [mm]
pads (26):
  rect 1.5x3 hole 1.15: 1(0,-5)
  rrect17% 1.5x3 hole 1.15: 1(0,0)
  rrect100% 1.5x3 hole 1.15: 2(10,-5) 2(10,0) 3(20,-5) 3(20,0) 4(30,-5) 4(30,0) 5(40,-5) 5(40,0) 6(50,-5) 6(50,0) 7(60,-5) 7(60,0) 8(70,-5) 8(70,0) 9(80,-5) 9(80,0) 10(90,-5) 10(90,0) 11(100,-5) 11(100,0) 12(110,-5) 12(110,0) 13(120,-5) 13(120,0)
F.SilkS:
  drawing of 256 lines, arcs and shapes, not listed
F.Fab:
  drawing of 216 lines, arcs and shapes, not listed
  text "'.Designator'" at 58.603,-1.84 h1
F.CrtYd:
  lines w0.254: -4,-9.5 -4,5.5 129.3,5.5 129.3,-9.5 -4,-9.5